# EAGLE library part 687150144821 (library Wuerth_Elektronik_eiCan_03_ZIF_Connectors_&_Flat_Flexible_Cable)
WR-FPC 0.5mm SMT ZIF Horizontal Bottom Contact Low Profil 1.2mm Height, 50 Pins
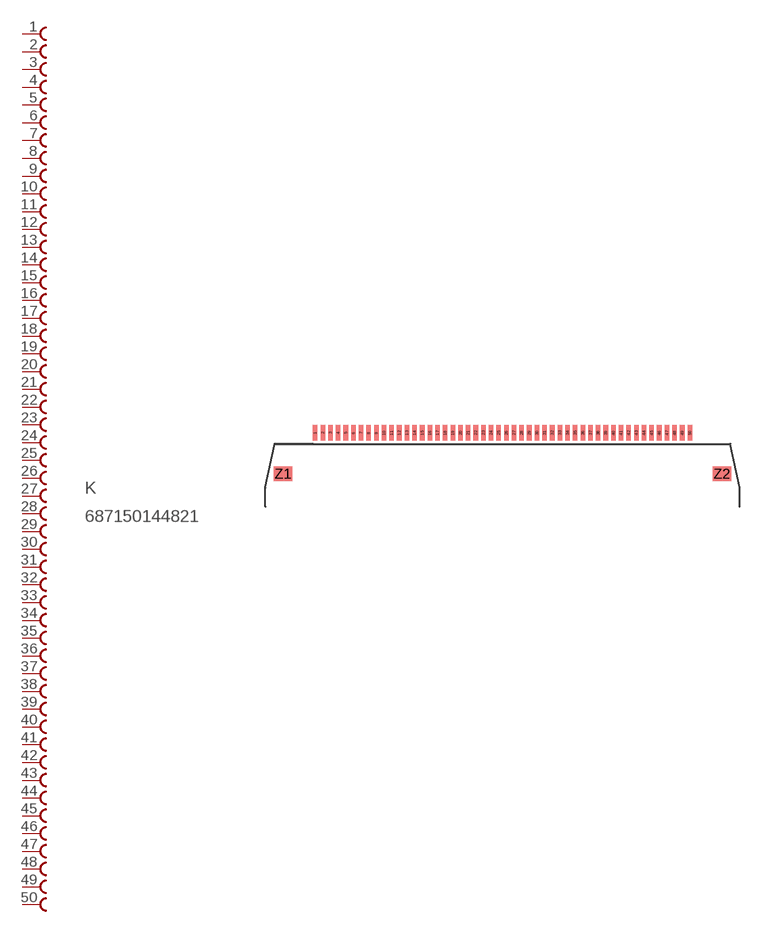
[diagram p18: symbol with the pads of 687150144821; footprint 687150144821]

Designator prefix K

## 687150144821  [687150144821]
1  1  pas
2  2  pas
3  3  pas
4  4  pas
5  5  pas
6  6  pas
7  7  pas
8  8  pas
9  9  pas
10  10  pas
11  11  pas
12  12  pas
13  13  pas
14  14  pas
15  15  pas
16  16  pas
17  17  pas
18  18  pas
19  19  pas
20  20  pas
21  21  pas
22  22  pas
23  23  pas
24  24  pas
25  25  pas
26  26  pas
27  27  pas
28  28  pas
29  29  pas
30  30  pas
31  31  pas
32  32  pas
33  33  pas
34  34  pas
35  35  pas
36  36  pas
37  37  pas
38  38  pas
39  39  pas
40  40  pas
41  41  pas
42  42  pas
43  43  pas
44  44  pas
45  45  pas
46  46  pas
47  47  pas
48  48  pas
49  49  pas
50  50  pas

## Footprint 687150144821 (pad centres in mm)
WR-FPC 0.5mm SMT ZIF Horizontal Bottom Contact Low Profil 1.2mm Height, 50 Pins
smd 0.3 x 1: 1 -12.25,4.825; 2 -11.75,4.825; 3 -11.25,4.825; 4 -10.75,4.825; 5 -10.25,4.825; 6 -9.75,4.825; 7 -9.25,4.825; 8 -8.75,4.825; 9 -8.25,4.825; 10 -7.75,4.825; 11 -7.25,4.825; 12 -6.75,4.825; 13 -6.25,4.825; 14 -5.75,4.825; 15 -5.25,4.825; 16 -4.75,4.825; 17 -4.25,4.825; 18 -3.75,4.825; 19 -3.25,4.825; 20 -2.75,4.825; 21 -2.25,4.825; 22 -1.75,4.825; 23 -1.25,4.825; 24 -0.75,4.825; 25 -0.25,4.825; 26 0.25,4.825; 27 0.75,4.825; 28 1.25,4.825; 29 1.75,4.825; 30 2.25,4.825; 31 2.75,4.825; 32 3.25,4.825; 33 3.75,4.825; 34 4.25,4.825; 35 4.75,4.825; 36 5.25,4.825; 37 5.75,4.825; 38 6.25,4.825; 39 6.75,4.825; 40 7.25,4.825; 41 7.75,4.825; 42 8.25,4.825; 43 8.75,4.825; 44 9.25,4.825; 45 9.75,4.825; 46 10.25,4.825; 47 10.75,4.825; 48 11.25,4.825; 49 11.75,4.825; 50 12.25,4.825
smd 1.2 x 0.95: Z1 -14.35,2.15; Z2 14.35,2.15